# EAGLE library part MZPA4?16 (library rele)
RELAY
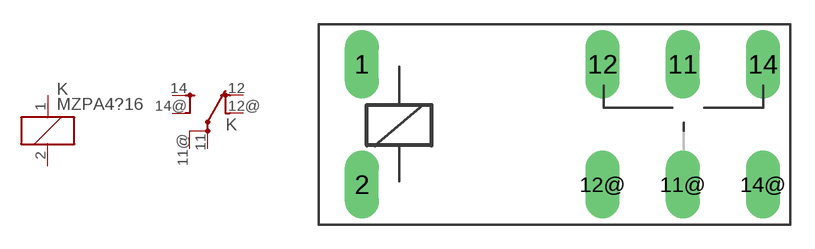
[diagram p20: symbol with the pads of MZPA16; footprint MZPA16]

Designator prefix K; gates G$1=K G$2=U-2

## MZPA4116  [MZPA16]
1  G$1:1  pas
2  G$1:2  pas
11  G$2:P  pas
11@  G$2:P  pas
12  G$2:O  pas
12@  G$2:O1  pas
14  G$2:S  pas
14@  G$2:S1  pas

## MZPA4616  [MZPA16]
Pads as for MZPA16

## MZPA4416  [MZPA16]
Pads as for MZPA16

## MZPA4516  [MZPA16]
Pads as for MZPA16

## MZPA4816  [MZPA16]
Pads as for MZPA16

## MZPA4916  [MZPA16]
Pads as for MZPA16

## Footprint MZPA16 (pad centres in mm)
RELAY
drill 1.422 long: 1 -12,3.75; 2 -12,-3.75; 11 8,3.75; 11@ 8,-3.75; 12 3,3.75; 12@ 3,-3.75; 14 13,3.75; 14@ 13,-3.75